# Altium integrated library NXP Semiconductors Automotive MOSFETs.IntLib: 540 symbols (part 7 of 16)
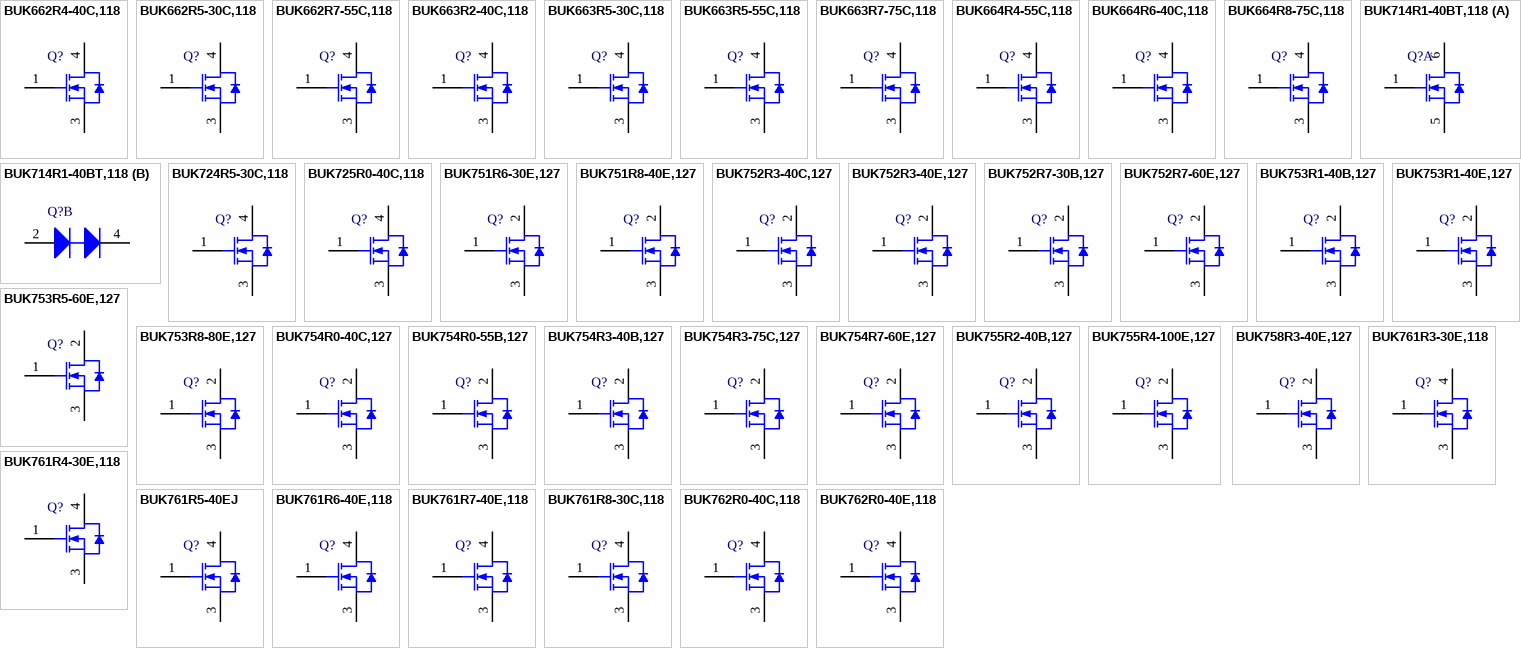
[diagram p20: symbols BUK662R4-40C,118 to BUK762R0-40E,118]

## BUK664R4-55C,118
designator Q?
N-Channel TrenchMOS Intermediate Level FET, 55 V, 100 A, 3-Pin SOT404, Tape and Reel; Manufacturer: NXP Semiconductors; PartNumber: BUK664R4-55C,118; Automotive Qualified: Y; Channel Type: N; ID [max] (A): 100; IDM [max] (A): 550; Packing: Tape & Reel; Qr [typ] (nC): 112; VDS [max] (V): 55; DatasheetVersion: Rev. 03; PackageVersion: 13-02-25, 02/2013; PackageReference: SOT404; PackageDescription: 3-Pin Plastic Single-ended Surface Mounted Package, Body 10 x 9.6 mm, Pitch 2.54 mm; Supplier 1: Digi-Key; Supplier Part Number 1: 568-7004-2-ND; Supplier 2: Digi-Key; Supplier Part Number 2: 568-7004-1-ND; Supplier 3: Digi-Key; Supplier Part Number 3: 568-7004-6-ND; Supplier 4: Newark; Supplier Part Number 4: 24T6243; Supplier 5: Mouser; Supplier Part Number 5: 771-BUK664R455C118; Mounting Technology: Surface Mount; ComponentLink1Description: Manufacturer URL; ComponentLink1URL: http://www.nxp.com/; ComponentLink2Description: Datasheet; ComponentLink2URL: http://www.nxp.com/documents/data_sheet/BUK664R4-55C.pdf; ComponentLink3Description: Package Specification; ComponentLink3URL: http://www.nxp.com/documents/outline_drawing/sot404_po.pdf
footprint NXP-SOT404_N (DPAK, 3-Leads, Body 10.3x9.8mm, Pitch 2.54mm, IPC Medium Density)
footprint NXP-SOT404_L (DPAK, 3-Leads, Body 10.3x9.8mm, Pitch 2.54mm, IPC High Density)
footprint NXP-SOT404_M (DPAK, 3-Leads, Body 10.3x9.8mm, Pitch 2.54mm, IPC Low Density)
pins: 1 G "gate", 3 S "source", 4 D "mounting base; connected to drain"

## BUK664R6-40C,118
designator Q?
N-Channel TrenchMOS Intermediate Level FET, 40 V, 100 A, 3-Pin SOT404, Tape and Reel; Manufacturer: NXP Semiconductors; PartNumber: BUK664R6-40C,118; Automotive Qualified: Y; Channel Type: N; ID [max] (A): 100; IDM [max] (A): 511; Packing: Tape & Reel; Qr [typ] (nC): 65; VDS [max] (V): 40; VGSth [typ] (V): 2.3; DatasheetVersion: Rev. 2; PackageVersion: 13-02-25, 02/2013; PackageReference: SOT404; PackageDescription: 3-Pin Plastic Single-ended Surface Mounted Package, Body 10 x 9.6 mm, Pitch 2.54 mm; Supplier 1: Digi-Key; Supplier Part Number 1: 568-7005-1-ND; Supplier 2: Digi-Key; Supplier Part Number 2: 568-7005-6-ND; Supplier 3: Digi-Key; Supplier Part Number 3: 568-7005-2-ND; Supplier 4: Mouser; Supplier Part Number 4: 771-BUK664R640C118; Mounting Technology: Surface Mount; ComponentLink1Description: Manufacturer URL; ComponentLink1URL: http://www.nxp.com/; ComponentLink2Description: Datasheet; ComponentLink2URL: http://www.nxp.com/documents/data_sheet/BUK664R6-40C.pdf; ComponentLink3Description: Package Specification; ComponentLink3URL: http://www.nxp.com/documents/outline_drawing/sot404_po.pdf
footprint NXP-SOT404_N (DPAK, 3-Leads, Body 10.3x9.8mm, Pitch 2.54mm, IPC Medium Density)
footprint NXP-SOT404_L (DPAK, 3-Leads, Body 10.3x9.8mm, Pitch 2.54mm, IPC High Density)
footprint NXP-SOT404_M (DPAK, 3-Leads, Body 10.3x9.8mm, Pitch 2.54mm, IPC Low Density)
pins: 1 G "gate", 3 S "source", 4 D "mounting base; connected to drain"

## BUK664R8-75C,118
designator Q?
N-Channel TrenchMOS FET, 75 V, 120 A, 3-Pin SOT404, Tape and Reel; Manufacturer: NXP Semiconductors; PartNumber: BUK664R8-75C,118; Automotive Qualified: Y; Channel Type: N; ID [max] (A): 120; IDM [max] (A): 569; Packing: Tape & Reel; Qr [typ] (nC): 153; VDS [max] (V): 75; VGSth [typ] (V): 2.3; DatasheetVersion: Rev. 2; PackageVersion: 13-02-25, 02/2013; PackageReference: SOT404; PackageDescription: 3-Pin Plastic Single-ended Surface Mounted Package, Body 10 x 9.6 mm, Pitch 2.54 mm; Supplier 1: Digi-Key; Supplier Part Number 1: 568-7006-1-ND; Supplier 2: Digi-Key; Supplier Part Number 2: 568-7006-6-ND; Supplier 3: Digi-Key; Supplier Part Number 3: 568-7006-2-ND; Supplier 4: Mouser; Supplier Part Number 4: 771-BUK664R875C118; Mounting Technology: Surface Mount; ComponentLink1Description: Manufacturer URL; ComponentLink1URL: http://www.nxp.com/; ComponentLink2Description: Datasheet; ComponentLink2URL: http://www.nxp.com/documents/data_sheet/BUK664R8-75C.pdf; ComponentLink3Description: Package Specification; ComponentLink3URL: http://www.nxp.com/documents/outline_drawing/sot404_po.pdf
footprint NXP-SOT404_N (DPAK, 3-Leads, Body 10.3x9.8mm, Pitch 2.54mm, IPC Medium Density)
footprint NXP-SOT404_L (DPAK, 3-Leads, Body 10.3x9.8mm, Pitch 2.54mm, IPC High Density)
footprint NXP-SOT404_M (DPAK, 3-Leads, Body 10.3x9.8mm, Pitch 2.54mm, IPC Low Density)
pins: 1 G "gate", 3 S "source", 4 D "mounting base; connected to drain"

## BUK714R1-40BT,118
designator Q?
N-Channel TrenchPLUS Standard Level FET, 40 V, 5-Pin SOT426, Tape and Reel; Manufacturer: NXP Semiconductors; PartNumber: BUK714R1-40BT,118; Automotive Qualified: Y; Channel Type: N; IDM [max] (A): 748; Packing: Tape & Reel; Qr [typ] (nC): 55; VDS [max] (V): 40; VGSth [typ] (V): 3; DatasheetVersion: Rev. 02; PackageVersion: 06-03-16, 03/2006; PackageReference: SOT426; PackageDescription: 5-Pin Plastic Single-ended Surface Mounted Package, Body 10 x 9.6 mm, Pitch 1.7 mm; Supplier 1: Digi-Key; Supplier Part Number 1: 568-9632-2-ND; Supplier 2: Digi-Key; Supplier Part Number 2: 568-9632-1-ND; Supplier 3: Digi-Key; Supplier Part Number 3: 568-9632-6-ND; Supplier 4: Mouser; Supplier Part Number 4: 771-BUK714R1-40BT118; Mounting Technology: Surface Mount; ComponentLink1Description: Manufacturer URL; ComponentLink1URL: http://www.nxp.com/; ComponentLink2Description: Datasheet; ComponentLink2URL: http://www.nxp.com/documents/data_sheet/BUK714R1-40BT.pdf; ComponentLink3Description: Package Specification; ComponentLink3URL: http://www.nxp.com/documents/outline_drawing/sot426_po.pdf
footprint NXP-SOT426_N (DPAK, 5-Leads, Body 10.3x9.8mm, Pitch 1.7mm, IPC Medium Density)
footprint NXP-SOT426_L (DPAK, 5-Leads, Body 10.3x9.8mm, Pitch 1.7mm, IPC High Density)
footprint NXP-SOT426_M (DPAK, 5-Leads, Body 10.3x9.8mm, Pitch 1.7mm, IPC Low Density)
part A pins: 1 G "gate", 5 S "source", 6 D "mounting base; connected to drain"
part B pins: 2 A "anode", 4 K "cathode"

## BUK724R5-30C,118
designator Q?
N-Channel TrenchMOS Standard Level FET, 30 V, 3-Pin SOT428, Tape and Reel; Manufacturer: NXP Semiconductors; PartNumber: BUK724R5-30C,118; Automotive Qualified: Y; Channel Type: N; IDM [max] (A): 543; Packing: Tape & Reel; Qr [typ] (nC): 44; VDS [max] (V): 30; VGSth [typ] (V): 3; DatasheetVersion: Rev. 01; PackageVersion: 14-06-10, 06/2014; PackageReference: SOT428; PackageDescription: 3-Pin Plastic Single-ended Surface Mounted Package, Body 6.1 x 6.6 mm, Pitch 2.285 mm; Supplier 1: Digi-Key; Supplier Part Number 1: 568-5846-2-ND; Supplier 2: Digi-Key; Supplier Part Number 2: 568-5846-1-ND; Supplier 3: Digi-Key; Supplier Part Number 3: 568-5846-6-ND; Supplier 4: Mouser; Supplier Part Number 4: 771-BUK724R5-30C,118; Mounting Technology: Surface Mount; Code_JEITA: SC-63; Code_JEDEC: TO-252; ComponentLink1Description: Manufacturer URL; ComponentLink1URL: http://www.nxp.com/; ComponentLink2Description: Datasheet; ComponentLink2URL: http://www.nxp.com/documents/data_sheet/BUK724R5-30C.pdf; ComponentLink3Description: Package Specification; ComponentLink3URL: http://www.nxp.com/documents/outline_drawing/sot428_po.pdf
footprint NXP-SOT428_N (DPAK, 3-Leads, Body 6.75x6.22mm, Pitch 2.29mm, IPC Medium Density)
footprint NXP-SOT428_L (DPAK, 3-Leads, Body 6.75x6.22mm, Pitch 2.29mm, IPC High Density)
footprint NXP-SOT428_M (DPAK, 3-Leads, Body 6.75x6.22mm, Pitch 2.29mm, IPC Low Density)
pins: 1 G "gate", 3 S "source", 4 D "mounting base; connected to drain"

## BUK725R0-40C,118
designator Q?
N-Channel TrenchMOS Standard Level FET, 40 V, 75 A, 3-Pin SOT428, Tape and Reel; Manufacturer: NXP Semiconductors; PartNumber: BUK725R0-40C,118; Automotive Qualified: Y; Channel Type: N; ID [max] (A): 75; IDM [max] (A): 490; Packing: Tape & Reel; Qr [typ] (nC): 25; VDS [max] (V): 40; VGSth [typ] (V): 3; DatasheetVersion: Rev. 01; PackageVersion: 14-06-10, 06/2014; PackageReference: SOT428; PackageDescription: 3-Pin Plastic Single-ended Surface Mounted Package, Body 6.1 x 6.6 mm, Pitch 2.285 mm; Supplier 1: Digi-Key; Supplier Part Number 1: 568-5847-2-ND; Supplier 2: Digi-Key; Supplier Part Number 2: 568-5847-1-ND; Supplier 3: Digi-Key; Supplier Part Number 3: 568-5847-6-ND; Supplier 4: Mouser; Supplier Part Number 4: 771-BUK725R0-40C,118; Mounting Technology: Surface Mount; Code_JEITA: SC-63; Code_JEDEC: TO-252; ComponentLink1Description: Manufacturer URL; ComponentLink1URL: http://www.nxp.com/; ComponentLink2Description: Datasheet; ComponentLink2URL: http://www.nxp.com/documents/data_sheet/BUK725R0-40C.pdf; ComponentLink3Description: Package Specification; ComponentLink3URL: http://www.nxp.com/documents/outline_drawing/sot428_po.pdf
footprint NXP-SOT428_N (DPAK, 3-Leads, Body 6.75x6.22mm, Pitch 2.29mm, IPC Medium Density)
footprint NXP-SOT428_L (DPAK, 3-Leads, Body 6.75x6.22mm, Pitch 2.29mm, IPC High Density)
footprint NXP-SOT428_M (DPAK, 3-Leads, Body 6.75x6.22mm, Pitch 2.29mm, IPC Low Density)
pins: 1 G "gate", 3 S "source", 4 D "mounting base; connected to drain"

## BUK751R6-30E,127
designator Q?
N-Channel TrenchMOS Standard Level FET, 30 V, 120 A, 3-Pin SOT78A, Rail; Manufacturer: NXP Semiconductors; PartNumber: BUK751R6-30E,127; Automotive Qualified: Y; Channel Type: N; ID [max] (A): 120; IDM [max] (A): 1408; Qr [typ] (nC): 93; VDS [max] (V): 30; VGSth [typ] (V): 3; PackageVersion: 05-03-14, 03/2005; PackageReference: SOT78A; PackageDescription: 3-Pin Flange Mount, Vertical Straight Lead, Body 10 x 4.3 mm, Pitch 2.54 mm; Supplier 1: Digi-Key; Supplier Part Number 1: 568-9837-5-ND; Supplier 2: Mouser; Supplier Part Number 2: 771-BUK751R6-30E127; Packing: Rail; Mounting Technology: Through Hole; Code_JEITA: SC-46; Code_JEDEC: 3-lead TO-220AB; ComponentLink1Description: Manufacturer URL; ComponentLink1URL: http://www.nxp.com/; ComponentLink2Description: Datasheet; ComponentLink2URL: http://www.nxp.com/documents/data_sheet/BUK751R6-30E.pdf; ComponentLink3Description: Package Specification; ComponentLink3URL: http://www.nxp.com/documents/outline_drawing/sot078a_po.pdf
footprint NXP-SOT78A (FM, 3-Leads, Body 10.3x4.5mm, Pitch 2.54mm)
pins: 1 G "gate", 2 D "drain", 3 S "source"

## BUK751R8-40E,127
designator Q?
N-Channel TrenchMOS Standard Level FET, 40 V, 120 A, 3-Pin SOT78A, Rail; Manufacturer: NXP Semiconductors; PartNumber: BUK751R8-40E,127; Automotive Qualified: Y; Channel Type: N; ID [max] (A): 120; IDM [max] (A): 1278; Qr [typ] (nC): 94; VDS [max] (V): 40; VGSth [typ] (V): 3; PackageVersion: 05-03-14, 03/2005; PackageReference: SOT78A; PackageDescription: 3-Pin Flange Mount, Vertical Straight Lead, Body 10 x 4.3 mm, Pitch 2.54 mm; Supplier 1: Digi-Key; Supplier Part Number 1: 568-9838-5-ND; Supplier 2: Mouser; Supplier Part Number 2: 771-BUK751R8-40E127; Packing: Rail; Mounting Technology: Through Hole; Code_JEITA: SC-46; Code_JEDEC: 3-lead TO-220AB; ComponentLink1Description: Manufacturer URL; ComponentLink1URL: http://www.nxp.com/; ComponentLink2Description: Datasheet; ComponentLink2URL: http://www.nxp.com/documents/data_sheet/BUK751R8-40E.pdf; ComponentLink3Description: Package Specification; ComponentLink3URL: http://www.nxp.com/documents/outline_drawing/sot078a_po.pdf
footprint NXP-SOT78A (FM, 3-Leads, Body 10.3x4.5mm, Pitch 2.54mm)
pins: 1 G "gate", 2 D "drain", 3 S "source"

## BUK752R3-40C,127
designator Q?
N-Channel TrenchMOS Standard Level FET, 40 V, 3-Pin SOT78A, Rail; Manufacturer: NXP Semiconductors; PartNumber: BUK752R3-40C,127; Automotive Qualified: Y; Channel Type: N; IDM [max] (A): 1104; Qr [typ] (nC): 57; VDS [max] (V): 40; VGSth [typ] (V): 3; DatasheetVersion: Rev. 03; PackageVersion: 05-03-14, 03/2005; PackageReference: SOT78A; PackageDescription: 3-Pin Flange Mount, Vertical Straight Lead, Body 10 x 4.3 mm, Pitch 2.54 mm; Supplier 1: Digi-Key; Supplier Part Number 1: 568-6621-5-ND; Supplier 2: Mouser; Supplier Part Number 2: 771-BUK752R3-40C,127; Packing: Rail; Mounting Technology: Through Hole; Code_JEITA: SC-46; Code_JEDEC: 3-lead TO-220AB; ComponentLink1Description: Manufacturer URL; ComponentLink1URL: http://www.nxp.com/; ComponentLink2Description: Datasheet; ComponentLink2URL: http://www.nxp.com/documents/data_sheet/BUK752R3-40C.pdf; ComponentLink3Description: Package Specification; ComponentLink3URL: http://www.nxp.com/documents/outline_drawing/sot078a_po.pdf
footprint NXP-SOT78A (FM, 3-Leads, Body 10.3x4.5mm, Pitch 2.54mm)
pins: 1 G "gate", 2 D "drain", 3 S "source"

## BUK752R3-40E,127
designator Q?
N-Channel TrenchMOS Standard Level FET, 40 V, 120 A, 3-Pin SOT78A, Rail; Manufacturer: NXP Semiconductors; PartNumber: BUK752R3-40E,127; Automotive Qualified: Y; Channel Type: N; ID [max] (A): 120; IDM [max] (A): 1035; Qr [typ] (nC): 54; VDS [max] (V): 40; VGSth [typ] (V): 3; PackageVersion: 05-03-14, 03/2005; PackageReference: SOT78A; PackageDescription: 3-Pin Flange Mount, Vertical Straight Lead, Body 10 x 4.3 mm, Pitch 2.54 mm; Supplier 1: Digi-Key; Supplier Part Number 1: 568-9839-5-ND; Supplier 2: Mouser; Supplier Part Number 2: 771-BUK752R3-40E127; Packing: Rail; Mounting Technology: Through Hole; Code_JEITA: SC-46; Code_JEDEC: 3-lead TO-220AB; ComponentLink1Description: Manufacturer URL; ComponentLink1URL: http://www.nxp.com/; ComponentLink2Description: Datasheet; ComponentLink2URL: http://www.nxp.com/documents/data_sheet/BUK752R3-40E.pdf; ComponentLink3Description: Package Specification; ComponentLink3URL: http://www.nxp.com/documents/outline_drawing/sot078a_po.pdf
footprint NXP-SOT78A (FM, 3-Leads, Body 10.3x4.5mm, Pitch 2.54mm)
pins: 1 G "gate", 2 D "drain", 3 S "source"

## BUK752R7-30B,127
designator Q?
N-Channel TrenchMOS Standard Level FET, 30 V, 3-Pin SOT78, Rail; Manufacturer: NXP Semiconductors; PartNumber: BUK752R7-30B,127; Automotive Qualified: Y; Channel Type: N; IDM [max] (A): 967; Qr [typ] (nC): 132; VDS [max] (V): 30; VGSth [typ] (V): 3; DatasheetVersion: Rev. 04; PackageVersion: 08-06-13, 06/2008; PackageReference: SOT78; PackageDescription: 3-Pin Flange Mount, Vertical Straight Lead, Body 10 x 4.4 mm, Pitch 2.54 mm; Supplier 1: Digi-Key; Supplier Part Number 1: 568-6622-5-ND; Supplier 2: Mouser; Supplier Part Number 2: 771-BUK752R7-30B127; Packing: Rail; Mounting Technology: Through Hole; Code_JEITA: SC-46; Code_JEDEC: 3-lead TO-220AB; ComponentLink1Description: Manufacturer URL; ComponentLink1URL: http://www.nxp.com/; ComponentLink2Description: Datasheet; ComponentLink2URL: http://www.nxp.com/documents/data_sheet/BUK752R7-30B.pdf; ComponentLink3Description: Package Specification; ComponentLink3URL: http://www.nxp.com/documents/outline_drawing/sot078_po.pdf
footprint NXP-SOT78 (FM, 3-Leads, Body 10.3x4.7mm, Pitch 2.54mm)
pins: 1 G "gate", 2 D "drain", 3 S "source"

## BUK752R7-60E,127
designator Q?
N-Channel TrenchMOS Standard Level FET, 60 V, 120 A, 3-Pin SOT78A, Rail; Manufacturer: NXP Semiconductors; PartNumber: BUK752R7-60E,127; Automotive Qualified: Y; Channel Type: N; ID [max] (A): 120; IDM [max] (A): 995; Qr [typ] (nC): 89; VDS [max] (V): 60; VGSth [typ] (V): 3; PackageVersion: 05-03-14, 03/2005; PackageReference: SOT78A; PackageDescription: 3-Pin Flange Mount, Vertical Straight Lead, Body 10 x 4.3 mm, Pitch 2.54 mm; Supplier 1: Digi-Key; Supplier Part Number 1: 568-9840-5-ND; Supplier 2: Mouser; Supplier Part Number 2: 771-BUK752R7-60E127; Packing: Rail; Mounting Technology: Through Hole; Code_JEITA: SC-46; Code_JEDEC: 3-lead TO-220AB; ComponentLink1Description: Manufacturer URL; ComponentLink1URL: http://www.nxp.com/; ComponentLink2Description: Datasheet; ComponentLink2URL: http://www.nxp.com/documents/data_sheet/BUK752R7-60E.pdf; ComponentLink3Description: Package Specification; ComponentLink3URL: http://www.nxp.com/documents/outline_drawing/sot078a_po.pdf
footprint NXP-SOT78A (FM, 3-Leads, Body 10.3x4.5mm, Pitch 2.54mm)
pins: 1 G "gate", 2 D "drain", 3 S "source"

## BUK753R1-40B,127
designator Q?
N-Channel TrenchMOS Standard Level FET, 40 V, 3-Pin SOT78A, Rail; Manufacturer: NXP Semiconductors; PartNumber: BUK753R1-40B,127; Automotive Qualified: Y; Channel Type: N; IDM [max] (A): 902; Qr [typ] (nC): 103; VDS [max] (V): 40; VGSth [typ] (V): 3; DatasheetVersion: Rev. 3; PackageVersion: 05-03-14, 03/2005; PackageReference: SOT78A; PackageDescription: 3-Pin Flange Mount, Vertical Straight Lead, Body 10 x 4.3 mm, Pitch 2.54 mm; Supplier 1: Digi-Key; Supplier Part Number 1: 568-6623-5-ND; Supplier 2: Mouser; Supplier Part Number 2: 771-BUK753R1-40B127; Packing: Rail; Mounting Technology: Through Hole; Code_JEITA: SC-46; Code_JEDEC: 3-lead TO-220AB; ComponentLink1Description: Manufacturer URL; ComponentLink1URL: http://www.nxp.com/; ComponentLink2Description: Datasheet; ComponentLink2URL: http://www.nxp.com/documents/data_sheet/BUK753R1-40B.pdf; ComponentLink3Description: Package Specification; ComponentLink3URL: http://www.nxp.com/documents/outline_drawing/sot078a_po.pdf
footprint NXP-SOT78A (FM, 3-Leads, Body 10.3x4.5mm, Pitch 2.54mm)
pins: 1 G "gate", 2 D "drain", 3 S "source"

## BUK753R1-40E,127
designator Q?
N-Channel TrenchMOS Standard Level FET, 40 V, 100 A, 3-Pin SOT78A, Rail; Manufacturer: NXP Semiconductors; PartNumber: BUK753R1-40E,127; Automotive Qualified: Y; Channel Type: N; ID [max] (A): 100; IDM [max] (A): 798; Qr [typ] (nC): 44.6; VDS [max] (V): 40; VGSth [typ] (V): 3; PackageVersion: 05-03-14, 03/2005; PackageReference: SOT78A; PackageDescription: 3-Pin Flange Mount, Vertical Straight Lead, Body 10 x 4.3 mm, Pitch 2.54 mm; Supplier 1: Digi-Key; Supplier Part Number 1: 568-9841-5-ND; Supplier 2: Mouser; Supplier Part Number 2: 771-BUK753R1-40E127; Packing: Rail; Mounting Technology: Through Hole; Code_JEITA: SC-46; Code_JEDEC: 3-lead TO-220AB; ComponentLink1Description: Manufacturer URL; ComponentLink1URL: http://www.nxp.com/; ComponentLink2Description: Datasheet; ComponentLink2URL: http://www.nxp.com/documents/data_sheet/BUK753R1-40E.pdf; ComponentLink3Description: Package Specification; ComponentLink3URL: http://www.nxp.com/documents/outline_drawing/sot078a_po.pdf
footprint NXP-SOT78A (FM, 3-Leads, Body 10.3x4.5mm, Pitch 2.54mm)
pins: 1 G "gate", 2 D "drain", 3 S "source"

## BUK753R5-60E,127
designator Q?
N-Channel TrenchMOS Standard Level FET, 60 V, 120 A, 3-Pin SOT78A, Rail; Manufacturer: NXP Semiconductors; PartNumber: BUK753R5-60E,127; Automotive Qualified: Y; Channel Type: N; ID [max] (A): 120; IDM [max] (A): 785; Qr [typ] (nC): 59.3; VDS [max] (V): 60; VGSth [typ] (V): 3; PackageVersion: 05-03-14, 03/2005; PackageReference: SOT78A; PackageDescription: 3-Pin Flange Mount, Vertical Straight Lead, Body 10 x 4.3 mm, Pitch 2.54 mm; Supplier 1: Digi-Key; Supplier Part Number 1: 568-9842-5-ND; Supplier 2: Mouser; Supplier Part Number 2: 771-BUK753R5-60E127; Packing: Rail; Mounting Technology: Through Hole; Code_JEITA: SC-46; Code_JEDEC: 3-lead TO-220AB; ComponentLink1Description: Manufacturer URL; ComponentLink1URL: http://www.nxp.com/; ComponentLink2Description: Datasheet; ComponentLink2URL: http://www.nxp.com/documents/data_sheet/BUK753R5-60E.pdf; ComponentLink3Description: Package Specification; ComponentLink3URL: http://www.nxp.com/documents/outline_drawing/sot078a_po.pdf
footprint NXP-SOT78A (FM, 3-Leads, Body 10.3x4.5mm, Pitch 2.54mm)
pins: 1 G "gate", 2 D "drain", 3 S "source"

## BUK753R8-80E,127
designator Q?
N-Channel TrenchMOS Standard Level FET, 80 V, 120 A, 3-Pin SOT78A, Rail; Manufacturer: NXP Semiconductors; PartNumber: BUK753R8-80E,127; Automotive Qualified: Y; Channel Type: N; ID [max] (A): 120; IDM [max] (A): 758; Qr [typ] (nC): 121; VDS [max] (V): 80; VGSth [typ] (V): 3; PackageVersion: 05-03-14, 03/2005; PackageReference: SOT78A; PackageDescription: 3-Pin Flange Mount, Vertical Straight Lead, Body 10 x 4.3 mm, Pitch 2.54 mm; Supplier 1: Digi-Key; Supplier Part Number 1: 568-9843-5-ND; Supplier 2: Mouser; Supplier Part Number 2: 771-BUK753R8-80E127; Packing: Rail; Mounting Technology: Through Hole; Code_JEITA: SC-46; Code_JEDEC: 3-lead TO-220AB; ComponentLink1Description: Manufacturer URL; ComponentLink1URL: http://www.nxp.com/; ComponentLink2Description: Datasheet; ComponentLink2URL: http://www.nxp.com/documents/data_sheet/BUK753R8-80E.pdf; ComponentLink3Description: Package Specification; ComponentLink3URL: http://www.nxp.com/documents/outline_drawing/sot078a_po.pdf
footprint NXP-SOT78A (FM, 3-Leads, Body 10.3x4.5mm, Pitch 2.54mm)
pins: 1 G "gate", 2 D "drain", 3 S "source"

## BUK754R0-40C,127
designator Q?
N-Channel TrenchMOS Standard Level FET, 40 V, 3-Pin SOT78, Rail; Manufacturer: NXP Semiconductors; PartNumber: BUK754R0-40C,127; Automotive Qualified: Y; Channel Type: N; IDM [max] (A): 636; Qr [typ] (nC): 57; VDS [max] (V): 40; VGSth [typ] (V): 3; DatasheetVersion: Rev. 02; PackageVersion: 08-06-13, 06/2008; PackageReference: SOT78; PackageDescription: 3-Pin Flange Mount, Vertical Straight Lead, Body 10 x 4.4 mm, Pitch 2.54 mm; Supplier 1: Digi-Key; Supplier Part Number 1: 568-5226-5-ND; Supplier 2: Mouser; Supplier Part Number 2: 771-BUK754R0-40C127; Packing: Rail; Mounting Technology: Through Hole; Code_JEITA: SC-46; Code_JEDEC: 3-lead TO-220AB; ComponentLink1Description: Manufacturer URL; ComponentLink1URL: http://www.nxp.com/; ComponentLink2Description: Datasheet; ComponentLink2URL: http://www.nxp.com/documents/data_sheet/BUK754R0-40C.pdf; ComponentLink3Description: Package Specification; ComponentLink3URL: http://www.nxp.com/documents/outline_drawing/sot078_po.pdf
footprint NXP-SOT78 (FM, 3-Leads, Body 10.3x4.7mm, Pitch 2.54mm)
pins: 1 G "gate", 2 D "drain", 3 S "source"

## BUK754R0-55B,127
designator Q?
N-Channel TrenchMOS Standard Level FET, 55 V, 3-Pin SOT78A, Rail; Manufacturer: NXP Semiconductors; PartNumber: BUK754R0-55B,127; Automotive Qualified: Y; Channel Type: N; IDM [max] (A): 774; Qr [typ] (nC): 251; VDS [max] (V): 55; VGSth [typ] (V): 3; DatasheetVersion: Rev. 5; PackageVersion: 05-03-14, 03/2005; PackageReference: SOT78A; PackageDescription: 3-Pin Flange Mount, Vertical Straight Lead, Body 10 x 4.3 mm, Pitch 2.54 mm; Supplier 1: Digi-Key; Supplier Part Number 1: 568-6625-5-ND; Supplier 2: Mouser; Supplier Part Number 2: 771-BUK754R0-55B127; Packing: Rail; Mounting Technology: Through Hole; Code_JEITA: SC-46; Code_JEDEC: 3-lead TO-220AB; ComponentLink1Description: Manufacturer URL; ComponentLink1URL: http://www.nxp.com/; ComponentLink2Description: Datasheet; ComponentLink2URL: http://www.nxp.com/documents/data_sheet/BUK754R0-55B.pdf; ComponentLink3Description: Package Specification; ComponentLink3URL: http://www.nxp.com/documents/outline_drawing/sot078a_po.pdf
footprint NXP-SOT78A (FM, 3-Leads, Body 10.3x4.5mm, Pitch 2.54mm)
pins: 1 G "gate", 2 D "drain", 3 S "source"

## BUK754R3-40B,127
designator Q?
N-Channel TrenchMOS Standard Level FET, 40 V, 3-Pin SOT78A, Rail; Manufacturer: NXP Semiconductors; PartNumber: BUK754R3-40B,127; Automotive Qualified: Y; Channel Type: N; IDM [max] (A): 706; Qr [typ] (nC): 62; VDS [max] (V): 40; VGSth [typ] (V): 3; DatasheetVersion: Rev. 02; PackageVersion: 05-03-14, 03/2005; PackageReference: SOT78A; PackageDescription: 3-Pin Flange Mount, Vertical Straight Lead, Body 10 x 4.3 mm, Pitch 2.54 mm; Supplier 1: Digi-Key; Supplier Part Number 1: 568-6626-5-ND; Supplier 2: Mouser; Supplier Part Number 2: 771-BUK754R3-40B127; Packing: Rail; Mounting Technology: Through Hole; Code_JEITA: SC-46; Code_JEDEC: 3-lead TO-220AB; ComponentLink1Description: Manufacturer URL; ComponentLink1URL: http://www.nxp.com/; ComponentLink2Description: Datasheet; ComponentLink2URL: http://www.nxp.com/documents/data_sheet/BUK754R3-40B.pdf; ComponentLink3Description: Package Specification; ComponentLink3URL: http://www.nxp.com/documents/outline_drawing/sot078a_po.pdf
footprint NXP-SOT78A (FM, 3-Leads, Body 10.3x4.5mm, Pitch 2.54mm)
pins: 1 G "gate", 2 D "drain", 3 S "source"

## BUK754R3-75C,127
designator Q?
N-Channel TrenchMOS Standard Level FET, 75 V, 3-Pin SOT78A, Rail; Manufacturer: NXP Semiconductors; PartNumber: BUK754R3-75C,127; Automotive Qualified: Y; Channel Type: N; IDM [max] (A): 769; Qr [typ] (nC): 155; VDS [max] (V): 75; VGSth [typ] (V): 3; DatasheetVersion: Rev. 02; PackageVersion: 05-03-14, 03/2005; PackageReference: SOT78A; PackageDescription: 3-Pin Flange Mount, Vertical Straight Lead, Body 10 x 4.3 mm, Pitch 2.54 mm; Supplier 1: Digi-Key; Supplier Part Number 1: 568-6627-5-ND; Supplier 2: Mouser; Supplier Part Number 2: 771-BUK754R3-75C,127; Packing: Rail; Mounting Technology: Through Hole; Code_JEITA: SC-46; Code_JEDEC: 3-lead TO-220AB; ComponentLink1Description: Manufacturer URL; ComponentLink1URL: http://www.nxp.com/; ComponentLink2Description: Datasheet; ComponentLink2URL: http://www.nxp.com/documents/data_sheet/BUK754R3-75C.pdf; ComponentLink3Description: Package Specification; ComponentLink3URL: http://www.nxp.com/documents/outline_drawing/sot078a_po.pdf
footprint NXP-SOT78A (FM, 3-Leads, Body 10.3x4.5mm, Pitch 2.54mm)
pins: 1 G "gate", 2 D "drain", 3 S "source"

## BUK754R7-60E,127
designator Q?
N-Channel TrenchMOS Standard Level FET, 60 V, 100 A, 3-Pin SOT78A, Rail; Manufacturer: NXP Semiconductors; PartNumber: BUK754R7-60E,127; Automotive Qualified: Y; Channel Type: N; ID [max] (A): 100; IDM [max] (A): 613; Qr [typ] (nC): 49.6; VDS [max] (V): 60; VGSth [typ] (V): 3; PackageVersion: 05-03-14, 03/2005; PackageReference: SOT78A; PackageDescription: 3-Pin Flange Mount, Vertical Straight Lead, Body 10 x 4.3 mm, Pitch 2.54 mm; Supplier 1: Digi-Key; Supplier Part Number 1: 568-9844-5-ND; Supplier 2: Mouser; Supplier Part Number 2: 771-BUK754R7-60E127; Packing: Rail; Mounting Technology: Through Hole; Code_JEITA: SC-46; Code_JEDEC: 3-lead TO-220AB; ComponentLink1Description: Manufacturer URL; ComponentLink1URL: http://www.nxp.com/; ComponentLink2Description: Datasheet; ComponentLink2URL: http://www.nxp.com/documents/data_sheet/BUK754R7-60E.pdf; ComponentLink3Description: Package Specification; ComponentLink3URL: http://www.nxp.com/documents/outline_drawing/sot078a_po.pdf
footprint NXP-SOT78A (FM, 3-Leads, Body 10.3x4.5mm, Pitch 2.54mm)
pins: 1 G "gate", 2 D "drain", 3 S "source"

## BUK755R2-40B,127
designator Q?
N-Channel TrenchMOS Standard Level FET, 40 V, 3-Pin SOT78A, Rail; Manufacturer: NXP Semiconductors; PartNumber: BUK755R2-40B,127; Automotive Qualified: Y; Channel Type: N; IDM [max] (A): 573; Qr [typ] (nC): 38; VDS [max] (V): 40; VGSth [typ] (V): 3; DatasheetVersion: Rev. 02; PackageVersion: 05-03-14, 03/2005; PackageReference: SOT78A; PackageDescription: 3-Pin Flange Mount, Vertical Straight Lead, Body 10 x 4.3 mm, Pitch 2.54 mm; Supplier 1: Digi-Key; Supplier Part Number 1: 568-5721-5-ND; Supplier 2: Mouser; Supplier Part Number 2: 771-BUK755R2-40B127; Packing: Rail; Mounting Technology: Through Hole; Code_JEITA: SC-46; Code_JEDEC: 3-lead TO-220AB; ComponentLink1Description: Manufacturer URL; ComponentLink1URL: http://www.nxp.com/; ComponentLink2Description: Datasheet; ComponentLink2URL: http://www.nxp.com/documents/data_sheet/BUK755R2-40B.pdf; ComponentLink3Description: Package Specification; ComponentLink3URL: http://www.nxp.com/documents/outline_drawing/sot078a_po.pdf
footprint NXP-SOT78A (FM, 3-Leads, Body 10.3x4.5mm, Pitch 2.54mm)
pins: 1 G "gate", 2 D "drain", 3 S "source"

## BUK755R4-100E,127
designator Q?
N-Channel TrenchMOS Standard Level FET, 100 V, 120 A, 3-Pin SOT78A, Rail; Manufacturer: NXP Semiconductors; PartNumber: BUK755R4-100E,127; Automotive Qualified: Y; Channel Type: N; ID [max] (A): 120; IDM [max] (A): 631; Qr [typ] (nC): 191; VDS [max] (V): 100; VGSth [typ] (V): 3; PackageVersion: 05-03-14, 03/2005; PackageReference: SOT78A; PackageDescription: 3-Pin Flange Mount, Vertical Straight Lead, Body 10 x 4.3 mm, Pitch 2.54 mm; Supplier 1: Digi-Key; Supplier Part Number 1: 568-9845-5-ND; Supplier 2: Mouser; Supplier Part Number 2: 771-BUK755R4-100E127; Packing: Rail; Mounting Technology: Through Hole; Code_JEITA: SC-46; Code_JEDEC: 3-lead TO-220AB; ComponentLink1Description: Manufacturer URL; ComponentLink1URL: http://www.nxp.com/; ComponentLink2Description: Datasheet; ComponentLink2URL: http://www.nxp.com/documents/data_sheet/BUK755R4-100E.pdf; ComponentLink3Description: Package Specification; ComponentLink3URL: http://www.nxp.com/documents/outline_drawing/sot078a_po.pdf
footprint NXP-SOT78A (FM, 3-Leads, Body 10.3x4.5mm, Pitch 2.54mm)
pins: 1 G "gate", 2 D "drain", 3 S "source"

## BUK758R3-40E,127
designator Q?
N-Channel TrenchMOS Standard Level FET, 40 V, 75 A, 3-Pin SOT78A, Rail; Manufacturer: NXP Semiconductors; PartNumber: BUK758R3-40E,127; Automotive Qualified: Y; Channel Type: N; ID [max] (A): 75; IDM [max] (A): 331; Qr [typ] (nC): 10.7; VDS [max] (V): 40; VGSth [typ] (V): 3; PackageVersion: 05-03-14, 03/2005; PackageReference: SOT78A; PackageDescription: 3-Pin Flange Mount, Vertical Straight Lead, Body 10 x 4.3 mm, Pitch 2.54 mm; Supplier 1: Digi-Key; Supplier Part Number 1: 568-9846-5-ND; Supplier 2: Mouser; Supplier Part Number 2: 771-BUK758R3-40E127; Packing: Rail; Mounting Technology: Through Hole; Code_JEITA: SC-46; Code_JEDEC: 3-lead TO-220AB; ComponentLink1Description: Manufacturer URL; ComponentLink1URL: http://www.nxp.com/; ComponentLink2Description: Datasheet; ComponentLink2URL: http://www.nxp.com/documents/data_sheet/BUK758R3-40E.pdf; ComponentLink3Description: Package Specification; ComponentLink3URL: http://www.nxp.com/documents/outline_drawing/sot078a_po.pdf
footprint NXP-SOT78A (FM, 3-Leads, Body 10.3x4.5mm, Pitch 2.54mm)
pins: 1 G "gate", 2 D "drain", 3 S "source"

## BUK761R3-30E,118
designator Q?
N-Channel TrenchMOS Standard Level FET, 30 V, 120 A, 3-Pin SOT404, Tape and Reel; Manufacturer: NXP Semiconductors; PartNumber: BUK761R3-30E,118; Automotive Qualified: Y; Channel Type: N; ID [max] (A): 120; IDM [max] (A): 1580; Packing: Tape & Reel; Qr [typ] (nC): 93; VDS [max] (V): 30; VGSth [typ] (V): 3; DatasheetVersion: Rev. 3; PackageVersion: 13-02-25, 02/2013; PackageReference: SOT404; PackageDescription: 3-Pin Plastic Single-ended Surface Mounted Package, Body 10 x 9.6 mm, Pitch 2.54 mm; Supplier 1: Digi-Key; Supplier Part Number 1: 568-9564-2-ND; Supplier 2: Digi-Key; Supplier Part Number 2: 568-9564-1-ND; Supplier 3: Digi-Key; Supplier Part Number 3: 568-9564-6-ND; Supplier 4: Mouser; Supplier Part Number 4: 771-BUK761R3-30E,118; Mounting Technology: Surface Mount; ComponentLink1Description: Manufacturer URL; ComponentLink1URL: http://www.nxp.com/; ComponentLink2Description: Datasheet; ComponentLink2URL: http://www.nxp.com/documents/data_sheet/BUK761R3-30E.pdf; ComponentLink3Description: Package Specification; ComponentLink3URL: http://www.nxp.com/documents/outline_drawing/sot404_po.pdf
footprint NXP-SOT404_N (DPAK, 3-Leads, Body 10.3x9.8mm, Pitch 2.54mm, IPC Medium Density)
footprint NXP-SOT404_L (DPAK, 3-Leads, Body 10.3x9.8mm, Pitch 2.54mm, IPC High Density)
footprint NXP-SOT404_M (DPAK, 3-Leads, Body 10.3x9.8mm, Pitch 2.54mm, IPC Low Density)
pins: 1 G "gate", 3 S "source", 4 D "mounting base; connected to drain"

## BUK761R4-30E,118
designator Q?
N-Channel TrenchMOS Standard Level FET, 30 V, 120 A, 3-Pin SOT404, Tape and Reel; Manufacturer: NXP Semiconductors; PartNumber: BUK761R4-30E,118; Automotive Qualified: Y; Channel Type: N; ID [max] (A): 120; IDM [max] (A): 1425; Packing: Tape & Reel; Qr [typ] (nC): 66; VDS [max] (V): 30; VGSth [typ] (V): 3; PackageVersion: 13-02-25, 02/2013; PackageReference: SOT404; PackageDescription: 3-Pin Plastic Single-ended Surface Mounted Package, Body 10 x 9.6 mm, Pitch 2.54 mm; Supplier 1: Digi-Key; Supplier Part Number 1: 568-10169-2-ND; Supplier 2: Digi-Key; Supplier Part Number 2: 568-10169-1-ND; Supplier 3: Digi-Key; Supplier Part Number 3: 568-10169-6-ND; Supplier 4: Mouser; Supplier Part Number 4: 771-BUK761R4-30E118; Mounting Technology: Surface Mount; ComponentLink1Description: Manufacturer URL; ComponentLink1URL: http://www.nxp.com/; ComponentLink2Description: Datasheet; ComponentLink2URL: http://www.nxp.com/documents/data_sheet/BUK761R4-30E.pdf; ComponentLink3Description: Package Specification; ComponentLink3URL: http://www.nxp.com/documents/outline_drawing/sot404_po.pdf
footprint NXP-SOT404_N (DPAK, 3-Leads, Body 10.3x9.8mm, Pitch 2.54mm, IPC Medium Density)
footprint NXP-SOT404_L (DPAK, 3-Leads, Body 10.3x9.8mm, Pitch 2.54mm, IPC High Density)
footprint NXP-SOT404_M (DPAK, 3-Leads, Body 10.3x9.8mm, Pitch 2.54mm, IPC Low Density)
pins: 1 G "gate", 3 S "source", 4 D "mounting base; connected to drain"

## BUK761R5-40EJ
designator Q?
N-Channel TrenchMOS Standard Level FET, 40 V, 120 A, 3-Pin SOT404A, Reel; Manufacturer: NXP Semiconductors; PartNumber: BUK761R5-40EJ; Automotive Qualified: Y; Channel Type: N; ID [max] (A): 120; IDM [max] (A): 1400; Qr [typ] (nC): 94; VDS [max] (V): 40; VGSth [typ] (V): 3; PackageVersion: 13-03-12, 03/2013; PackageReference: SOT404A; PackageDescription: 3-Pin Plastic Single-ended Surface Mounted Package, Body 10 x 9.6 mm, Pitch 2.54 mm; Supplier 1: Digi-Key; Supplier Part Number 1: BUK761R5-40EJ-ND; Supplier 2: Newark; Supplier Part Number 2: 27X7428; Supplier 3: Mouser; Supplier Part Number 3: N/A; Packing: Reel; Mounting Technology: Surface Mount; ComponentLink1Description: Manufacturer URL; ComponentLink1URL: http://www.nxp.com/; ComponentLink2Description: Datasheet; ComponentLink2URL: http://www.nxp.com/documents/data_sheet/BUK761R5-40E.pdf; ComponentLink3Description: Package Specification; ComponentLink3URL: http://www.nxp.com/documents/outline_drawing/sot404a_po.pdf
footprint NXP-SOT404A_N (D2-PAK, 3-Leads, Body 9.80x10.30mm, IPC Medium Density)
footprint NXP-SOT404A_L (D2-PAK, 3-Leads, Body 9.80x10.30mm, IPC High Density)
footprint NXP-SOT404A_M (D2-PAK, 3-Leads, Body 9.80x10.30mm, IPC Low Density)
pins: 1 G "gate", 3 S "source", 4 D "mounting base; connected to drain"

## BUK761R6-40E,118
designator Q?
N-Channel TrenchMOS Standard Level FET, 40 V, 120 A, 3-Pin SOT404A, Reel; Manufacturer: NXP Semiconductors; PartNumber: BUK761R6-40E,118; Automotive Qualified: Y; Channel Type: N; ID [max] (A): 120; IDM [max] (A): 1355; Qr [typ] (nC): 94; VDS [max] (V): 40; VGSth [typ] (V): 3; PackageVersion: 13-03-12, 03/2013; PackageReference: SOT404A; PackageDescription: 3-Pin Plastic Single-ended Surface Mounted Package, Body 10 x 9.6 mm, Pitch 2.54 mm; Supplier 1: Digi-Key; Supplier Part Number 1: 568-9565-2-ND; Supplier 2: Digi-Key; Supplier Part Number 2: 568-9565-1-ND; Supplier 3: Digi-Key; Supplier Part Number 3: 568-9565-6-ND; Supplier 4: Mouser; Supplier Part Number 4: 771-BUK761R6-40E,118; Packing: Reel; Mounting Technology: Surface Mount; ComponentLink1Description: Manufacturer URL; ComponentLink1URL: http://www.nxp.com/; ComponentLink2Description: Datasheet; ComponentLink2URL: http://www.nxp.com/documents/data_sheet/BUK761R6-40E.pdf; ComponentLink3Description: Package Specification; ComponentLink3URL: http://www.nxp.com/documents/outline_drawing/sot404a_po.pdf
footprint NXP-SOT404A_N (D2-PAK, 3-Leads, Body 9.80x10.30mm, IPC Medium Density)
footprint NXP-SOT404A_L (D2-PAK, 3-Leads, Body 9.80x10.30mm, IPC High Density)
footprint NXP-SOT404A_M (D2-PAK, 3-Leads, Body 9.80x10.30mm, IPC Low Density)
pins: 1 G "gate", 3 S "source", 4 D "mounting base; connected to drain"

## BUK761R7-40E,118
designator Q?
N-Channel TrenchMOS Standard Level FET, 40 V, 120 A, 3-Pin SOT404A, Reel; Manufacturer: NXP Semiconductors; PartNumber: BUK761R7-40E,118; Automotive Qualified: Y; Channel Type: N; ID [max] (A): 120; IDM [max] (A): 1306; Qr [typ] (nC): 62; VDS [max] (V): 40; VGSth [typ] (V): 3; PackageVersion: 13-03-12, 03/2013; PackageReference: SOT404A; PackageDescription: 3-Pin Plastic Single-ended Surface Mounted Package, Body 10 x 9.6 mm, Pitch 2.54 mm; Supplier 1: Digi-Key; Supplier Part Number 1: 568-10241-2-ND; Supplier 2: Digi-Key; Supplier Part Number 2: 568-10241-1-ND; Supplier 3: Digi-Key; Supplier Part Number 3: 568-10241-6-ND; Supplier 4: Newark; Supplier Part Number 4: 45W7238; Supplier 5: Mouser; Supplier Part Number 5: 771-BUK761R7-40E118; Packing: Reel; Mounting Technology: Surface Mount; ComponentLink1Description: Manufacturer URL; ComponentLink1URL: http://www.nxp.com/; ComponentLink2Description: Datasheet; ComponentLink2URL: http://www.nxp.com/documents/data_sheet/BUK761R7-40E.pdf; ComponentLink3Description: Package Specification; ComponentLink3URL: http://www.nxp.com/documents/outline_drawing/sot404a_po.pdf
footprint NXP-SOT404A_N (D2-PAK, 3-Leads, Body 9.80x10.30mm, IPC Medium Density)
footprint NXP-SOT404A_L (D2-PAK, 3-Leads, Body 9.80x10.30mm, IPC High Density)
footprint NXP-SOT404A_M (D2-PAK, 3-Leads, Body 9.80x10.30mm, IPC Low Density)
pins: 1 G "gate", 3 S "source", 4 D "mounting base; connected to drain"

## BUK761R8-30C,118
designator Q?
N-Channel TrenchMOS Standard Level FET, 30 V, 3-Pin SOT404, Tape and Reel; Manufacturer: NXP Semiconductors; PartNumber: BUK761R8-30C,118; Automotive Qualified: Y; Channel Type: N; IDM [max] (A): 1249; Packing: Tape & Reel; Qr [typ] (nC): 48; VDS [max] (V): 30; VGSth [typ] (V): 3; DatasheetVersion: Rev. 02; PackageVersion: 13-02-25, 02/2013; PackageReference: SOT404; PackageDescription: 3-Pin Plastic Single-ended Surface Mounted Package, Body 10 x 9.6 mm, Pitch 2.54 mm; Supplier 1: Digi-Key; Supplier Part Number 1: 568-5854-2-ND; Supplier 2: Digi-Key; Supplier Part Number 2: 568-5854-1-ND; Supplier 3: Digi-Key; Supplier Part Number 3: 568-5854-6-ND; Supplier 4: Mouser; Supplier Part Number 4: 771-BUK761R8-30C,118; Mounting Technology: Surface Mount; ComponentLink1Description: Manufacturer URL; ComponentLink1URL: http://www.nxp.com/; ComponentLink2Description: Datasheet; ComponentLink2URL: http://www.nxp.com/documents/data_sheet/BUK761R8-30C.pdf; ComponentLink3Description: Package Specification; ComponentLink3URL: http://www.nxp.com/documents/outline_drawing/sot404_po.pdf
footprint NXP-SOT404_N (DPAK, 3-Leads, Body 10.3x9.8mm, Pitch 2.54mm, IPC Medium Density)
footprint NXP-SOT404_L (DPAK, 3-Leads, Body 10.3x9.8mm, Pitch 2.54mm, IPC High Density)
footprint NXP-SOT404_M (DPAK, 3-Leads, Body 10.3x9.8mm, Pitch 2.54mm, IPC Low Density)
pins: 1 G "gate", 3 S "source", 4 D "mounting base; connected to drain"

## BUK762R0-40C,118
designator Q?
N-Channel TrenchMOS Standard Level FET, 40 V, 3-Pin SOT404, Tape and Reel; Manufacturer: NXP Semiconductors; PartNumber: BUK762R0-40C,118; Automotive Qualified: Y; Channel Type: N; IDM [max] (A): 1104; Packing: Tape & Reel; Qr [typ] (nC): 57; VDS [max] (V): 40; VGSth [typ] (V): 3; DatasheetVersion: Rev. 02; PackageVersion: 13-02-25, 02/2013; PackageReference: SOT404; PackageDescription: 3-Pin Plastic Single-ended Surface Mounted Package, Body 10 x 9.6 mm, Pitch 2.54 mm; Supplier 1: Digi-Key; Supplier Part Number 1: 568-6574-2-ND; Supplier 2: Digi-Key; Supplier Part Number 2: 568-6574-1-ND; Supplier 3: Digi-Key; Supplier Part Number 3: 568-6574-6-ND; Supplier 4: Mouser; Supplier Part Number 4: 771-BUK762R0-40C,118; Mounting Technology: Surface Mount; ComponentLink1Description: Manufacturer URL; ComponentLink1URL: http://www.nxp.com/; ComponentLink2Description: Datasheet; ComponentLink2URL: http://www.nxp.com/documents/data_sheet/BUK762R0-40C.pdf; ComponentLink3Description: Package Specification; ComponentLink3URL: http://www.nxp.com/documents/outline_drawing/sot404_po.pdf
footprint NXP-SOT404_N (DPAK, 3-Leads, Body 10.3x9.8mm, Pitch 2.54mm, IPC Medium Density)
footprint NXP-SOT404_L (DPAK, 3-Leads, Body 10.3x9.8mm, Pitch 2.54mm, IPC High Density)
footprint NXP-SOT404_M (DPAK, 3-Leads, Body 10.3x9.8mm, Pitch 2.54mm, IPC Low Density)
pins: 1 G "gate", 3 S "source", 4 D "mounting base; connected to drain"

## BUK762R0-40E,118
designator Q?
N-Channel TrenchMOS Standard Level FET, 40 V, 120 A, 3-Pin SOT404, Tape and Reel; Manufacturer: NXP Semiconductors; PartNumber: BUK762R0-40E,118; Automotive Qualified: Y; Channel Type: N; ID [max] (A): 120; IDM [max] (A): 1110; Packing: Tape & Reel; Qr [typ] (nC): 54; VDS [max] (V): 40; VGSth [typ] (V): 3; PackageVersion: 13-02-25, 02/2013; PackageReference: SOT404; PackageDescription: 3-Pin Plastic Single-ended Surface Mounted Package, Body 10 x 9.6 mm, Pitch 2.54 mm; Supplier 1: Digi-Key; Supplier Part Number 1: 568-10242-2-ND; Supplier 2: Digi-Key; Supplier Part Number 2: 568-10242-1-ND; Supplier 3: Digi-Key; Supplier Part Number 3: 568-10242-6-ND; Supplier 4: Mouser; Supplier Part Number 4: 771-BUK762R0-40E118; Mounting Technology: Surface Mount; ComponentLink1Description: Manufacturer URL; ComponentLink1URL: http://www.nxp.com/; ComponentLink2Description: Datasheet; ComponentLink2URL: http://www.nxp.com/documents/data_sheet/BUK762R0-40E.pdf; ComponentLink3Description: Package Specification; ComponentLink3URL: http://www.nxp.com/documents/outline_drawing/sot404_po.pdf
footprint NXP-SOT404_N (DPAK, 3-Leads, Body 10.3x9.8mm, Pitch 2.54mm, IPC Medium Density)
footprint NXP-SOT404_L (DPAK, 3-Leads, Body 10.3x9.8mm, Pitch 2.54mm, IPC High Density)
footprint NXP-SOT404_M (DPAK, 3-Leads, Body 10.3x9.8mm, Pitch 2.54mm, IPC Low Density)
pins: 1 G "gate", 3 S "source", 4 D "mounting base; connected to drain"

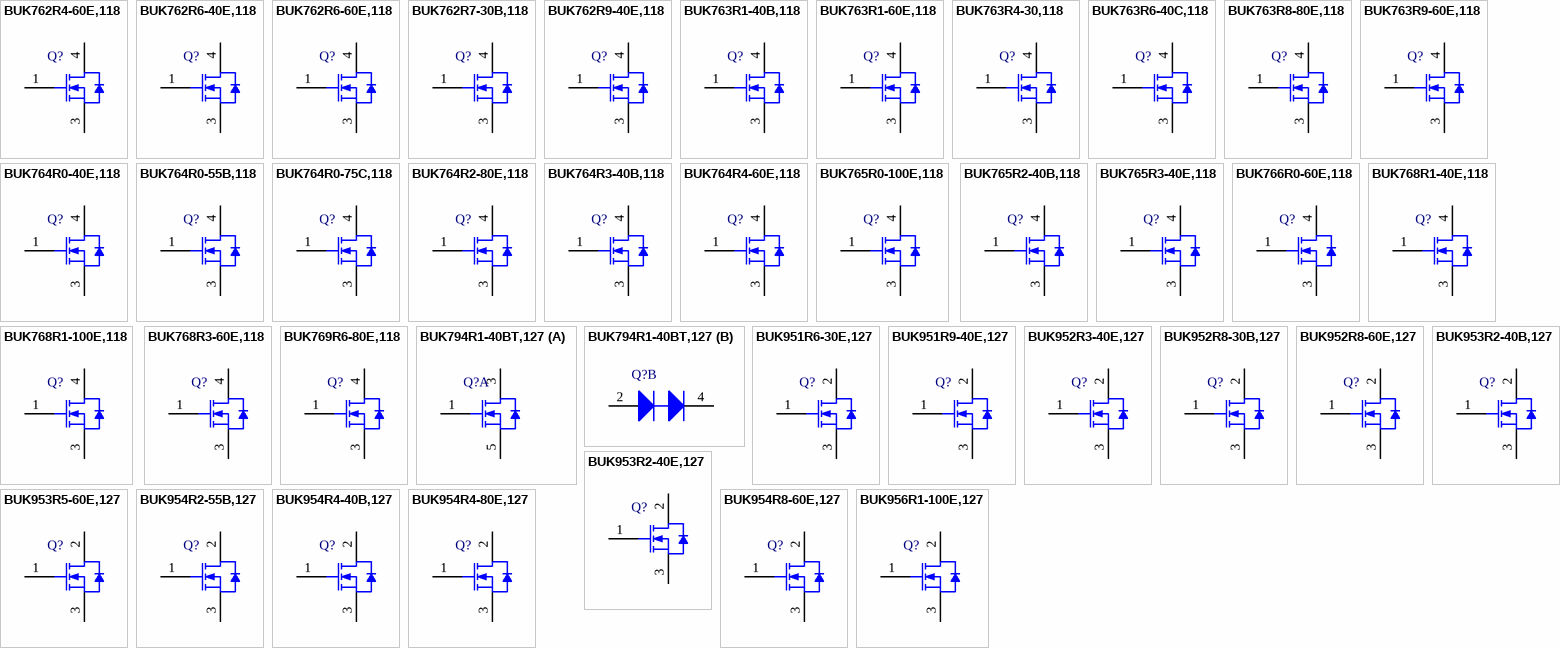
[diagram p7: symbols BUK762R4-60E,118 to BUK956R1-100E,127]

## BUK762R4-60E,118
designator Q?
N-Channel TrenchMOS Standard Level FET, 60 V, 120 A, 3-Pin SOT404, Tape and Reel; Manufacturer: NXP Semiconductors; PartNumber: BUK762R4-60E,118; Automotive Qualified: Y; Channel Type: N; ID [max] (A): 120; IDM [max] (A): 1047; Packing: Tape & Reel; Qr [typ] (nC): 89; VDS [max] (V): 60; VGSth [typ] (V): 3; DatasheetVersion: Rev. 2; PackageVersion: 13-02-25, 02/2013; PackageReference: SOT404; PackageDescription: 3-Pin Plastic Single-ended Surface Mounted Package, Body 10 x 9.6 mm, Pitch 2.54 mm; Supplier 1: Digi-Key; Supplier Part Number 1: 568-9566-2-ND; Supplier 2: Digi-Key; Supplier Part Number 2: 568-9566-1-ND; Supplier 3: Digi-Key; Supplier Part Number 3: 568-9566-6-ND; Supplier 4: Mouser; Supplier Part Number 4: 771-BUK762R4-60E,118; Mounting Technology: Surface Mount; ComponentLink1Description: Manufacturer URL; ComponentLink1URL: http://www.nxp.com/; ComponentLink2Description: Datasheet; ComponentLink2URL: http://www.nxp.com/documents/data_sheet/BUK762R4-60E.pdf; ComponentLink3Description: Package Specification; ComponentLink3URL: http://www.nxp.com/documents/outline_drawing/sot404_po.pdf
footprint NXP-SOT404_N (DPAK, 3-Leads, Body 10.3x9.8mm, Pitch 2.54mm, IPC Medium Density)
footprint NXP-SOT404_L (DPAK, 3-Leads, Body 10.3x9.8mm, Pitch 2.54mm, IPC High Density)
footprint NXP-SOT404_M (DPAK, 3-Leads, Body 10.3x9.8mm, Pitch 2.54mm, IPC Low Density)
pins: 1 G "gate", 3 S "source", 4 D "mounting base; connected to drain"

## BUK762R6-40E,118
designator Q?
N-Channel TrenchMOS Standard Level FET, 40 V, 100 A, 3-Pin SOT404, Tape and Reel; Manufacturer: NXP Semiconductors; PartNumber: BUK762R6-40E,118; Automotive Qualified: Y; Channel Type: N; ID [max] (A): 100; IDM [max] (A): 920; Packing: Tape & Reel; Qr [typ] (nC): 45.9; VDS [max] (V): 40; VGSth [typ] (V): 3; PackageVersion: 13-02-25, 02/2013; PackageReference: SOT404; PackageDescription: 3-Pin Plastic Single-ended Surface Mounted Package, Body 10 x 9.6 mm, Pitch 2.54 mm; Supplier 1: Digi-Key; Supplier Part Number 1: 568-10175-2-ND; Supplier 2: Digi-Key; Supplier Part Number 2: 568-10175-1-ND; Supplier 3: Digi-Key; Supplier Part Number 3: 568-10175-6-ND; Supplier 4: Mouser; Supplier Part Number 4: 771-BUK762R6-40E118; Mounting Technology: Surface Mount; ComponentLink1Description: Manufacturer URL; ComponentLink1URL: http://www.nxp.com/; ComponentLink2Description: Datasheet; ComponentLink2URL: http://www.nxp.com/documents/data_sheet/BUK762R6-40E.pdf; ComponentLink3Description: Package Specification; ComponentLink3URL: http://www.nxp.com/documents/outline_drawing/sot404_po.pdf
footprint NXP-SOT404_N (DPAK, 3-Leads, Body 10.3x9.8mm, Pitch 2.54mm, IPC Medium Density)
footprint NXP-SOT404_L (DPAK, 3-Leads, Body 10.3x9.8mm, Pitch 2.54mm, IPC High Density)
footprint NXP-SOT404_M (DPAK, 3-Leads, Body 10.3x9.8mm, Pitch 2.54mm, IPC Low Density)
pins: 1 G "gate", 3 S "source", 4 D "mounting base; connected to drain"

## BUK762R6-60E,118
designator Q?
N-Channel TrenchMOS Standard Level FET, 60 V, 120 A, 3-Pin SOT404, Tape and Reel; Manufacturer: NXP Semiconductors; PartNumber: BUK762R6-60E,118; Automotive Qualified: Y; Channel Type: N; ID [max] (A): 120; IDM [max] (A): 958; Packing: Tape & Reel; Qr [typ] (nC): 67; VDS [max] (V): 60; VGSth [typ] (V): 3; PackageVersion: 13-02-25, 02/2013; PackageReference: SOT404; PackageDescription: 3-Pin Plastic Single-ended Surface Mounted Package, Body 10 x 9.6 mm, Pitch 2.54 mm; Supplier 1: Digi-Key; Supplier Part Number 1: 568-10243-2-ND; Supplier 2: Digi-Key; Supplier Part Number 2: 568-10243-1-ND; Supplier 3: Digi-Key; Supplier Part Number 3: 568-10243-6-ND; Supplier 4: Mouser; Supplier Part Number 4: 771-BUK762R6-60E118; Mounting Technology: Surface Mount; ComponentLink1Description: Manufacturer URL; ComponentLink1URL: http://www.nxp.com/; ComponentLink2Description: Datasheet; ComponentLink2URL: http://www.nxp.com/documents/data_sheet/BUK762R6-60E.pdf; ComponentLink3Description: Package Specification; ComponentLink3URL: http://www.nxp.com/documents/outline_drawing/sot404_po.pdf
footprint NXP-SOT404_N (DPAK, 3-Leads, Body 10.3x9.8mm, Pitch 2.54mm, IPC Medium Density)
footprint NXP-SOT404_L (DPAK, 3-Leads, Body 10.3x9.8mm, Pitch 2.54mm, IPC High Density)
footprint NXP-SOT404_M (DPAK, 3-Leads, Body 10.3x9.8mm, Pitch 2.54mm, IPC Low Density)
pins: 1 G "gate", 3 S "source", 4 D "mounting base; connected to drain"

## BUK762R7-30B,118
designator Q?
N-Channel TrenchMOS Standard Level FET, 30 V, 3-Pin SOT404, Tape and Reel; Manufacturer: NXP Semiconductors; PartNumber: BUK762R7-30B,118; Automotive Qualified: Y; Channel Type: N; IDM [max] (A): 967; Packing: Tape & Reel; Qr [typ] (nC): 132; VDS [max] (V): 30; VGSth [typ] (V): 3; DatasheetVersion: Rev. 04; PackageVersion: 13-02-25, 02/2013; PackageReference: SOT404; PackageDescription: 3-Pin Plastic Single-ended Surface Mounted Package, Body 10 x 9.6 mm, Pitch 2.54 mm; Supplier 1: Digi-Key; Supplier Part Number 1: 568-6575-2-ND; Supplier 2: Digi-Key; Supplier Part Number 2: 568-6575-1-ND; Supplier 3: Digi-Key; Supplier Part Number 3: 568-6575-6-ND; Supplier 4: Mouser; Supplier Part Number 4: 771-BUK762R7-30B118; Mounting Technology: Surface Mount; ComponentLink1Description: Manufacturer URL; ComponentLink1URL: http://www.nxp.com/; ComponentLink2Description: Datasheet; ComponentLink2URL: http://www.nxp.com/documents/data_sheet/BUK762R7-30B.pdf; ComponentLink3Description: Package Specification; ComponentLink3URL: http://www.nxp.com/documents/outline_drawing/sot404_po.pdf
footprint NXP-SOT404_N (DPAK, 3-Leads, Body 10.3x9.8mm, Pitch 2.54mm, IPC Medium Density)
footprint NXP-SOT404_L (DPAK, 3-Leads, Body 10.3x9.8mm, Pitch 2.54mm, IPC High Density)
footprint NXP-SOT404_M (DPAK, 3-Leads, Body 10.3x9.8mm, Pitch 2.54mm, IPC Low Density)
pins: 1 G "gate", 3 S "source", 4 D "mounting base; connected to drain"

## BUK762R9-40E,118
designator Q?
N-Channel TrenchMOS Standard Level FET, 40 V, 100 A, 3-Pin SOT404, Tape and Reel; Manufacturer: NXP Semiconductors; PartNumber: BUK762R9-40E,118; Automotive Qualified: Y; Channel Type: N; ID [max] (A): 100; IDM [max] (A): 825; Packing: Tape & Reel; Qr [typ] (nC): 44.6; VDS [max] (V): 40; VGSth [typ] (V): 3; PackageVersion: 13-02-25, 02/2013; PackageReference: SOT404; PackageDescription: 3-Pin Plastic Single-ended Surface Mounted Package, Body 10 x 9.6 mm, Pitch 2.54 mm; Supplier 1: Digi-Key; Supplier Part Number 1: 568-9880-2-ND; Supplier 2: Digi-Key; Supplier Part Number 2: 568-9880-1-ND; Supplier 3: Digi-Key; Supplier Part Number 3: 568-9880-6-ND; Supplier 4: Mouser; Supplier Part Number 4: 771-BUK762R9-40E118; Mounting Technology: Surface Mount; ComponentLink1Description: Manufacturer URL; ComponentLink1URL: http://www.nxp.com/; ComponentLink2Description: Datasheet; ComponentLink2URL: http://www.nxp.com/documents/data_sheet/BUK762R9-40E.pdf; ComponentLink3Description: Package Specification; ComponentLink3URL: http://www.nxp.com/documents/outline_drawing/sot404_po.pdf
footprint NXP-SOT404_N (DPAK, 3-Leads, Body 10.3x9.8mm, Pitch 2.54mm, IPC Medium Density)
footprint NXP-SOT404_L (DPAK, 3-Leads, Body 10.3x9.8mm, Pitch 2.54mm, IPC High Density)
footprint NXP-SOT404_M (DPAK, 3-Leads, Body 10.3x9.8mm, Pitch 2.54mm, IPC Low Density)
pins: 1 G "gate", 3 S "source", 4 D "mounting base; connected to drain"

## BUK763R1-40B,118
designator Q?
N-Channel TrenchMOS Standard Level FET, 40 V, 3-Pin SOT404, Tape and Reel; Manufacturer: NXP Semiconductors; PartNumber: BUK763R1-40B,118; Automotive Qualified: Y; Channel Type: N; IDM [max] (A): 902; Packing: Tape & Reel; Qr [typ] (nC): 103; VDS [max] (V): 40; VGSth [typ] (V): 3; DatasheetVersion: Rev. 03; PackageVersion: 13-02-25, 02/2013; PackageReference: SOT404; PackageDescription: 3-Pin Plastic Single-ended Surface Mounted Package, Body 10 x 9.6 mm, Pitch 2.54 mm; Supplier 1: Digi-Key; Supplier Part Number 1: 568-6576-2-ND; Supplier 2: Digi-Key; Supplier Part Number 2: 568-6576-1-ND; Supplier 3: Digi-Key; Supplier Part Number 3: 568-6576-6-ND; Supplier 4: Mouser; Supplier Part Number 4: 771-BUK763R1-40B118; Mounting Technology: Surface Mount; ComponentLink1Description: Manufacturer URL; ComponentLink1URL: http://www.nxp.com/; ComponentLink2Description: Datasheet; ComponentLink2URL: http://www.nxp.com/documents/data_sheet/BUK763R1-40B.pdf; ComponentLink3Description: Package Specification; ComponentLink3URL: http://www.nxp.com/documents/outline_drawing/sot404_po.pdf
footprint NXP-SOT404_N (DPAK, 3-Leads, Body 10.3x9.8mm, Pitch 2.54mm, IPC Medium Density)
footprint NXP-SOT404_L (DPAK, 3-Leads, Body 10.3x9.8mm, Pitch 2.54mm, IPC High Density)
footprint NXP-SOT404_M (DPAK, 3-Leads, Body 10.3x9.8mm, Pitch 2.54mm, IPC Low Density)
pins: 1 G "gate", 3 S "source", 4 D "mounting base; connected to drain"